# Altium footprint library mcu_board.PcbLib: 10 footprints
Each footprint in its own frame and in the unit in brackets; x right, y up, seen from the top. Pads: shape width x height; smd on the part's side, far side on the other; paste and mask are expansions set on the pad; w line width, h text height; cw(c..) or ccw(c..) is an arc to the next point about the centre after c.
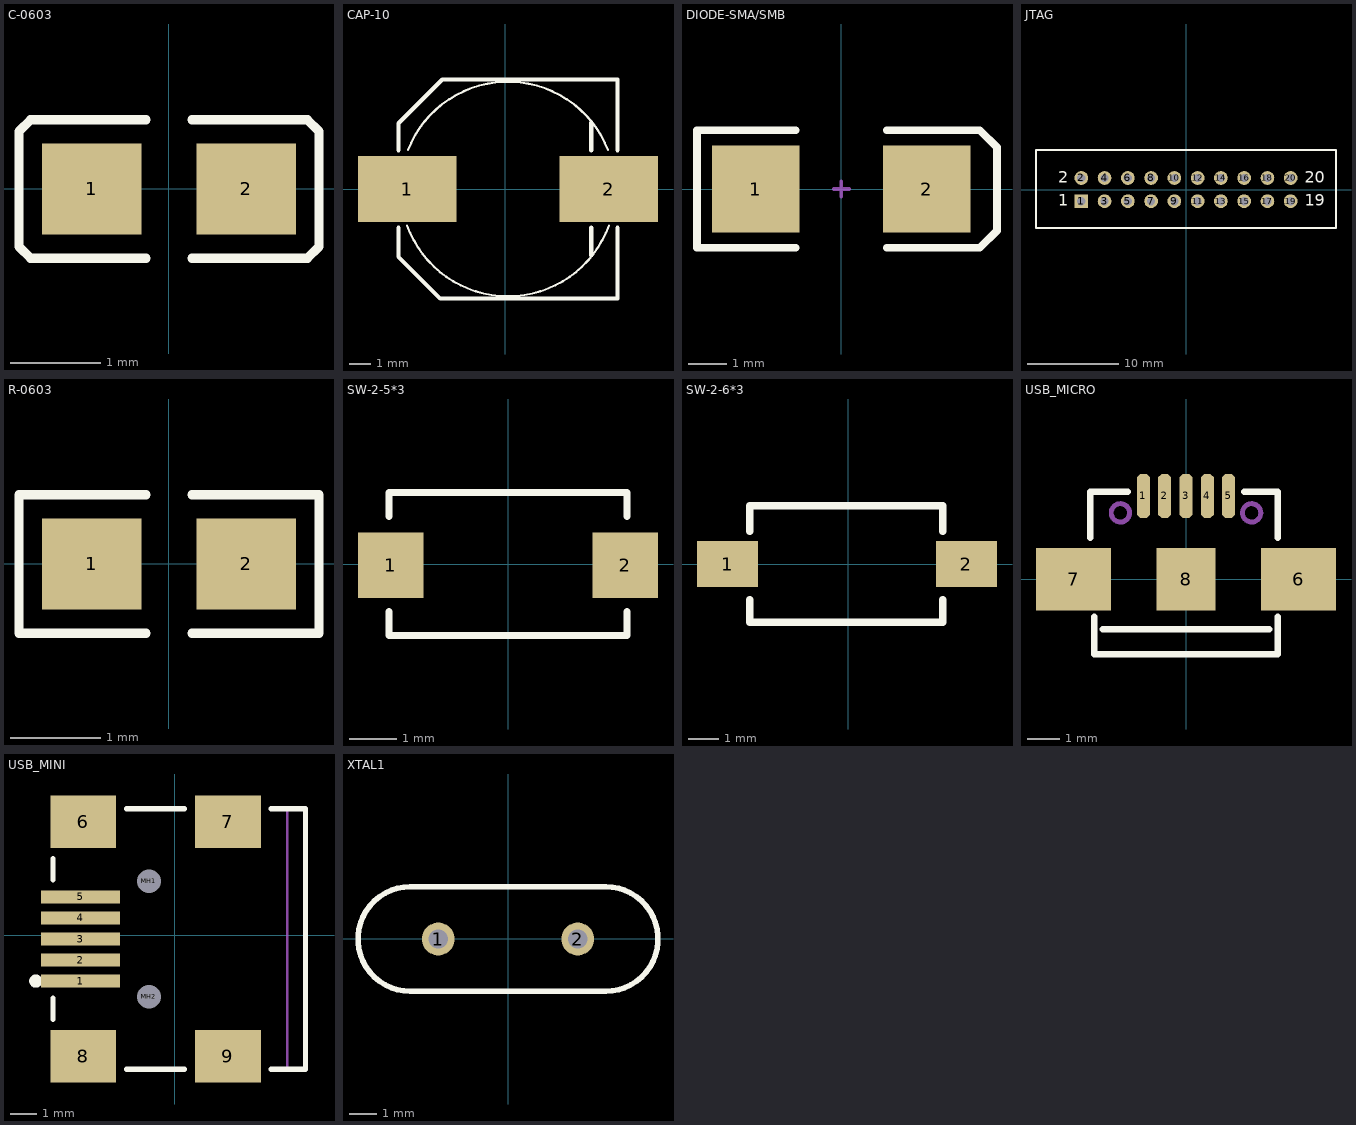
[diagram p0: the footprints below, top view; thin cyan lines are the x and y axes]

## C-0603 [mm]
pads (2):
  rect 1.1x1 smd: 1(-0.85,0) 2(0.85,0)
Top Overlay:
  lines w0.1: -0.254,-0.762 -1.524,-0.762 -1.651,-0.635 -1.651,0.635 -1.524,0.762 -0.254,0.762 ; 0.254,-0.762 1.524,-0.762 1.651,-0.635 1.651,0.635 1.524,0.762 0.254,0.762
3D body: height 0.6, standoff 0, extent -0.8,-0.4 0.8,0.4

## CAP-10 [mm]
pads (2):
  rect 4.5x3 smd: 1(-4.473,0) 2(4.727,0)
Top Overlay:
  lines w0.1: -4.482,-1.664 ccw(c0.127,0) 4.736,-1.664 ; -4.44,1.776 cw(c0.127,0) 4.694,1.776
  lines w0.2: -4.873,-1.778 -4.873,-3.1 -2.973,-5 5.127,-5 5.127,-1.778 ; -4.873,1.778 -4.873,3 -2.873,5 5.127,5 5.127,1.778 ; 3.927,-3.032 3.927,-1.778 ; 3.927,1.778 3.927,3.032
3D body: height 14, standoff 0, extent -6.023,-5.377 6.277,5.123

## DIODE-SMA/SMB [mm]
pads (2):
  rect 2.3x2.3 smd: 1(-2.25,0) 2(2.25,0)
Top Overlay:
  lines w0.2: -1.2,-1.55 -3.8,-1.55 -3.8,1.55 -1.2,1.55 ; 1.2,-1.55 3.65,-1.55 4.1,-1.1 4.1,1.1 3.65,1.55 1.2,1.55
Mechanical 1:
  lines w0.1: -0.2,0 0.2,0 ; 0,-0.2 0,0.2
3D body: height 2.41, standoff 0.13, extent -2.743,-1.397 2.743,1.397

## JTAG [mm]
pads (20):
  rect 1.5x1.5 hole 0.9: 1(-11.43,-1.27)
  round 1.5 hole 0.9: 2(-11.43,1.27) 3(-8.89,-1.27) 4(-8.89,1.27) 5(-6.35,-1.27) 6(-6.35,1.27) 7(-3.81,-1.27) 8(-3.81,1.27) 9(-1.27,-1.27) 10(-1.27,1.27) 11(1.27,-1.27) 12(1.27,1.27) 13(3.81,-1.27) 14(3.81,1.27) 15(6.35,-1.27) 16(6.35,1.27) 17(8.89,-1.27) 18(8.89,1.27) 19(11.43,-1.27) 20(11.43,1.27)
Top Overlay:
  lines w0.2: 16.383,-4.191 -12.954,-4.191 -14.897,-4.191 -16.383,-4.191 -16.383,-1.884 -16.383,4.318 16.383,4.318 16.383,-4.17
  text "2" at -13.97,0.762 h1.27
  text "1" at -13.97,-1.778 h1.27
  text "19" at 12.954,-1.778 h1.27
  text "20" at 12.954,0.762 h1.27
3D body: height 8.64, standoff -3.56, extent -16.35,-4.182 16.35,4.318

## R-0603 [mm]
pads (2):
  rect 1.1x1 smd: 1(-0.85,0) 2(0.85,0)
Top Overlay:
  lines w0.1: -0.254,-0.762 -1.651,-0.762 -1.651,0.762 -0.254,0.762 ; 0.254,-0.762 1.651,-0.762 1.651,0.762 0.254,0.762
3D body: height 0.38, standoff 0, extent -0.8,-0.381 0.8,0.419

## SW-2-5*3 [mm]
pads (2):
  rect 1.4x1.4 smd: 1(-2.5,-0.024) 2(2.5,-0.024)
Top Overlay:
  lines w0.15: -2.54,-1.016 -2.54,-1.524 2.54,-1.524 2.54,-1.016 ; -2.54,1.016 -2.54,1.524 2.54,1.524 2.54,1.016
3D body: height 2.1, standoff -0.05, extent -2.5,-1.524 2.5,1.476

## SW-2-6*3 [mm]
pads (2):
  rect 2x1.5 smd: 1(-3.937,0) 2(3.863,0)
Top Overlay:
  lines w0.254: -3.212,-1.168 -3.212,-1.9 3.088,-1.9 3.088,-1.168 ; -3.212,1.067 -3.212,1.9 3.088,1.9 3.088,1.067
3D body: height 2.5, standoff 0, extent -3.996,-1.945 3.894,1.905

## USB_MICRO [mm]
pads (8):
  oct 0.4x1.35 smd: 1(-1.3,2.54) 2(-0.65,2.54) 3(0,2.54) 4(0.65,2.54) 5(1.3,2.54)
  rect 2.286x1.9 smd: 6(3.429,0) 7(-3.429,0)
  rect 1.8x1.9 smd: 8(0,0)
Top Overlay:
  lines w0.2: -2.921,1.27 -2.921,2.667 -1.778,2.667 ; -2.794,-1.143 -2.794,-2.286 2.794,-2.286 2.794,-1.143 ; -2.54,-1.524 2.54,-1.524 ; 1.778,2.667 2.794,2.667 2.794,1.27
Mechanical 1:
  circle w0.15: c-2,2.023 r0.28
  circle w0.15: c2,2.023 r0.28
3D body: height 2.75, standoff -0.56, extent -4.1,-2.78 4.1,2.65

## USB_MINI [mm]
pads (11):
  rect 3x0.5 smd: 1(-3.588,-1.735) 2(-3.588,-0.935) 3(-3.588,-0.135) 4(-3.588,0.665) 5(-3.588,1.465)
  rect 2.5x2 smd: 6(-3.488,4.315) 7(2.012,4.315) 8(-3.488,-4.585) 9(2.012,-4.585)
  round 0.6 hole 0.9 unplated: MH1(-0.988,2.065) MH2(-0.988,-2.335)
Top Overlay:
  circle w0.25: c-5.288,-1.735 r0.125
  lines w0.2: -4.638,-3.185 -4.638,-2.385 ; -4.638,2.115 -4.638,2.915 ; -1.838,-5.085 0.362,-5.085 ; -1.838,4.815 0.362,4.815 ; 3.662,-5.085 4.962,-5.085 4.962,4.815 3.662,4.815
Mechanical 1:
  lines w0.1: 4.262,-5.085 4.262,4.815
  text "PCB Edge" at 4.694,-4.171 h0.25
3D body: height 3.95, standoff -1, extent -4.288,-5.485 4.912,5.215

## XTAL1 [mm]
pads (2):
  round 1.2 hole 0.7: 1(-2.556,-0.008) 2(2.524,-0.008)
Top Overlay:
  lines w0.203: -3.572,-1.913 cw(c-3.572,-0.008) -3.572,1.897 3.54,1.897 cw(c3.54,-0.008) 3.54,-1.913 -3.572,-1.913
3D body: height 3.22, standoff -2.41, extent -5.35,-2.062 5.318,2.046